# Altium schematic symbol library charger_LT3652.SchLib: 2 symbols
Pins are listed as number, name and electrical type; pins without a type are passive.

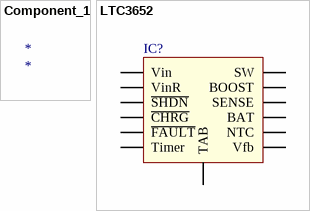
[diagram p0: symbols Component_1 to LTC3652]

## Component_1
designator *

## LTC3652
designator IC?  (value not drawn)
Manufacturer: Analog Devices / Linear Technology; Manufacturer Part Number: LT3652EMSE#PBF; Dynamic Catalog: Charge Management, Specialized; Other Related Documents: Power-Tracking Batt-Charger Article / Designing a Solar Cell Battery Charger; Product Training Modules: LT3652 Multi-Chemistry Battery Charger for Solar Power; Featured Product: Energy Harvesting Power Products; Reference Design Library: DC1568A(#1):  2 Cell, 8.2V, 2A Max, Solar / DC1568A(#2):  2 Cell, 8.2V, 2A Max, Solar; Function: Charge Management, Solar; Battery Chemistry: Lead Acid, LiFePO4, Li-Ion, Li-Pol, NiCd, NiMH; Voltage - Supply: 4.95 V ~ 32 V; For Use With: DC1568A-ND / - BOARD BATTERY CHARGER SOLAR PWR / DC1688A-ND / - EVAL BOARD BATT CHARGER LT3652; Other Names: LT3652EMSEPBF; Value: LTC3652; Supplier 1: Farnell; Stock 1: 0; Standard Package: 37; Category: Integrated Circuits (ICs); Family: PMIC - Battery Management; Series: -; Packaging: Tube; Operating Temperature: -40°C ~ 125°C; Mounting Type: Surface Mount; Package / Case: 12-TSSOP (0.118", 3.00mm Width) Exposed Pad; Supplier Device Package: 12-MSOP-EP; Online Catalog: Charge Management, Specialized; ComponentLink1URL: https://datasheet.ciiva.com/15114/getdatasheetpartid-367678-15114671.pdf; ComponentLink1Description: https://datasheet.ciiva.com/15114/getdatasheetpartid-367678-15114671.pdf; ComponentLink2URL: https://datasheet.ciiva.com/1932/28522-1932092.pdf; ComponentLink2Description: https://datasheet.ciiva.com/1932/28522-1932092.pdf; ComponentLink3URL: https://datasheet.ciiva.com/1139/1692510-1139705.pdf; ComponentLink3Description: https://datasheet.ciiva.com/1139/1692510-1139705.pdf; Supplier Part Number 1: 1839126
footprint MSOP12 - EP (MSOP, 12-Leads, Body 4,00x3,00mm, Pitch 0,65mm, Thermal Pad 2,90x1,70mm, IPC Medium Density)
pins: 1 Vin, 2 VinR, 3 ~{SHDN}, 4 ~{CHRG}, 5 ~{FAULT}, 6 Timer, 7 Vfb, 8 NTC, 9 BAT, 10 SENSE, 11 BOOST, 12 SW, 13 TAB